# EAGLE library part _40PIN_Z8FXX21 (library Zilog-Z8-Encore-v1_2)
Z8 Encore, DIP-40 Package
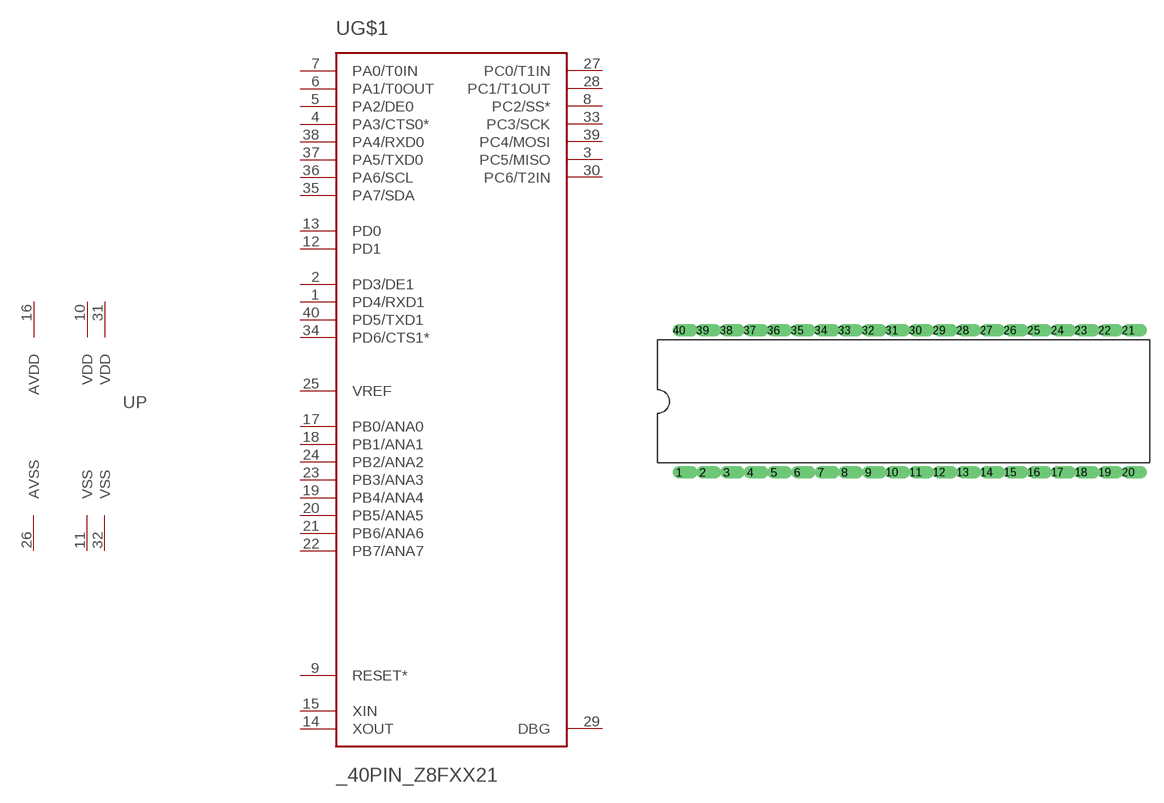
[diagram p4: symbol with the pads of DIL40; footprint DIL40]

Designator prefix U; gates G$1=Z8FXX21-DIP P=PWR_40-PIN

## _40PIN_Z8FXX21PM  [DIL40]
1  G$1:PD4/RXD1
2  G$1:PD3/DE1
3  G$1:PC5/MISO
4  G$1:PA3/CTS0*
5  G$1:PA2/DE0
6  G$1:PA1/T0OUT
7  G$1:PA0/T0IN
8  G$1:PC2/SS*
9  G$1:RESET*  in
10  P:VDD  pwr
11  P:VSS  pwr
12  G$1:PD1
13  G$1:PD0
14  G$1:XOUT  out
15  G$1:XIN  in
16  P:AVDD  pwr
17  G$1:PB0/ANA0
18  G$1:PB1/ANA1
19  G$1:PB4/ANA4
20  G$1:PB5/ANA5
21  G$1:PB6/ANA6
22  G$1:PB7/ANA7
23  G$1:PB3/ANA3
24  G$1:PB2/ANA2
25  G$1:VREF  pas
26  P:AVSS  pwr
27  G$1:PC0/T1IN
28  G$1:PC1/T1OUT
29  G$1:DBG
30  G$1:PC6/T2IN
31  P:VDD  pwr
32  P:VSS  pwr
33  G$1:PC3/SCK
34  G$1:PD6/CTS1*
35  G$1:PA7/SDA
36  G$1:PA6/SCL
37  G$1:PA5/TXD0
38  G$1:PA4/RXD0
39  G$1:PC4/MOSI
40  G$1:PD5/TXD1

## Footprint DIL40 (pad centres in mm)
Dual In-Line Package (DIP)
drill 0.813 offset: 1 -24.13,-7.62; 2 -21.59,-7.62; 3 -19.05,-7.62; 4 -16.51,-7.62; 5 -13.97,-7.62; 6 -11.43,-7.62; 7 -8.89,-7.62; 8 -6.35,-7.62; 9 -3.81,-7.62; 10 -1.27,-7.62; 11 1.27,-7.62; 12 3.81,-7.62; 13 6.35,-7.62; 14 8.89,-7.62; 15 11.43,-7.62; 16 13.97,-7.62; 17 16.51,-7.62; 18 19.05,-7.62; 19 21.59,-7.62; 20 24.13,-7.62; 21 24.13,7.62; 22 21.59,7.62; 23 19.05,7.62; 24 16.51,7.62; 25 13.97,7.62; 26 11.43,7.62; 27 8.89,7.62; 28 6.35,7.62; 29 3.81,7.62; 30 1.27,7.62; 31 -1.27,7.62; 32 -3.81,7.62; 33 -6.35,7.62; 34 -8.89,7.62; 35 -11.43,7.62; 36 -13.97,7.62; 37 -16.51,7.62; 38 -19.05,7.62; 39 -21.59,7.62; 40 -24.13,7.62